# EAGLE library part CON_USB-AX2 (library akita)
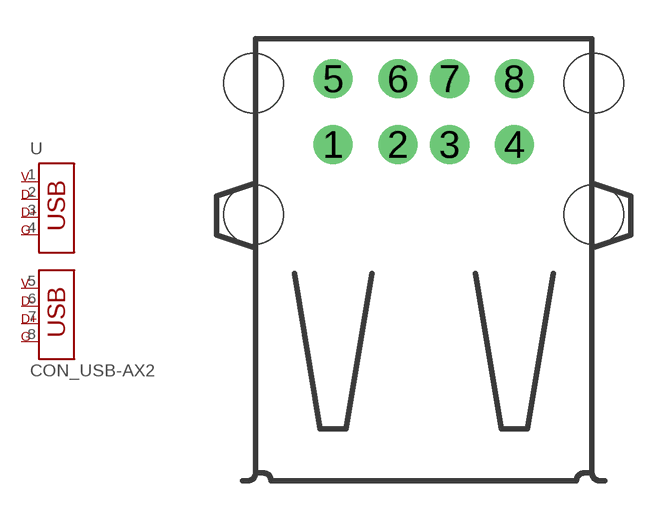
[diagram p32: symbol with the pads of USB-AX2; footprint USB-AX2]

Designator prefix -

## CON_USB-AX2  [USB-AX2]
1  1  pas
2  2  pas
3  3  pas
4  4  pas
5  5  pas
6  6  pas
7  7  pas
8  8  pas

## Footprint USB-AX2 (pad centres in mm)
drill 1: 1 -3.5,5.37; 2 -1,5.37; 3 1,5.37; 4 3.5,5.37; 5 -3.5,7.91; 6 -1,7.91; 7 1,7.91; 8 3.5,7.91
hole 2.3 at -6.57,2.66
hole 2.3 at 6.57,2.66
hole 2.3 at -6.57,7.74
hole 2.3 at 6.57,7.74